# Altium schematic symbol library dip_switches.SchLib: 5 symbols
Pins are listed as number, name and electrical type; pins without a type are passive.

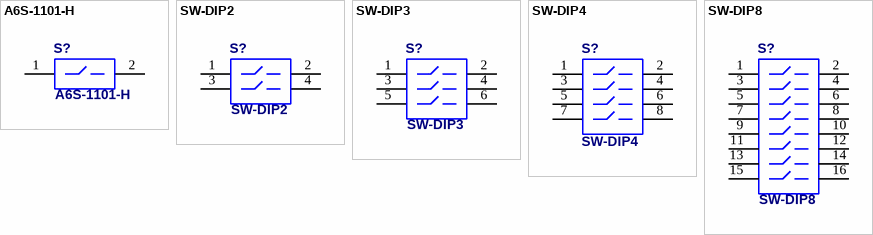
[diagram p0: symbols A6S-1101-H to SW-DIP8]

## A6S-1101-H
designator S?
DIP Switch; Published: 24-Mar-1999; Supplier 1: TME; Supplier 2: Farnell; Supplier Part Number 1: A6S-1101-H; Supplier Part Number 2: 1960889
footprint A6S-1101-H
pins: 1, 2

## SW-DIP2
designator S?
DIP Switch; Published: 24-Mar-1999
footprint SW-DIP2 (DIP-Switch; 4 Pos; Pitch 1.27 mm)
footprint SW-DIP2_SMD (DIP-Switch; 4 Pos; Pitch 1.27 mm)
footprint SW-DIP2-LOW (DIP Switch; 4 Leads)
pins: 1, 2, 3, 4

## SW-DIP3
designator S?
DIP Switch; Published: 24-Mar-1999
footprint SW-DIP3 (DIP; 6 Leads; Row Spacing 7.62 mm; Pitch 2.54 mm)
pins: 1, 2, 3, 4, 5, 6

## SW-DIP4
designator S?
DIP Switch; Published: 24-Mar-1999
footprint SW-DIP4 (DIP-Switch; 4 Pos; Pitch 1.27 mm)
footprint SW-DIP4_SMD (DIP-Switch; 4 Pos; Pitch 1.27 mm)
pins: 1, 2, 3, 4, 5, 6, 7, 8

## SW-DIP8
designator S?
DIP Switch; Published: 24-Mar-1999
footprint SW-DIP8_SMD (DIP Switch; 16 Leads)
footprint SW-DIP8-HIGH (DIP Switch; 16 Leads)
footprint SW-DIP8-LOW (DIP Switch; 16 Leads)
pins: 1, 2, 3, 4, 5, 6, 7, 8, 9, 10, 11, 12, 13, 14, 15, 16